# Altium schematic symbol library SM3041-015-D-C-3-S.SchLib: 1 symbol
Pins are listed as number, name and electrical type; pins without a type are passive.

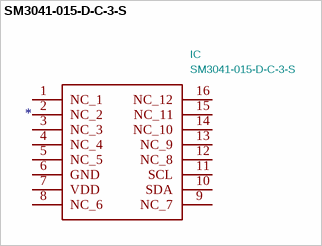
[diagram p0: symbol SM3041-015-D-C-3-S]

## SM3041-015-D-C-3-S
designator IC  value SM3041-015-D-C-3-S
Board Mount Pressure Sensors Med Pressure Sensor Digital Output; Manufacturer_Name: Silicon Microstructures, Inc.; Footprint: SOIC127P1031X952-16N; Supplier: https://www.mouser.co.uk/datasheet/2/589/SM3041_Datasheet2-930329.pdf; Description_: Board Mount Pressure Sensors Med Pressure Sensor Digital Output; Height: 9.52; Manufacturer_Part_Number: SM3041-015-D-C-3-S; Mouser Part Number: 987-SM3041-015DC3S; Mouser Price/Stock: https://www.mouser.com/Search/Refine.aspx?Keyword=987-SM3041-015DC3S
footprint SOIC127P1031X952-16N
pins: 1 NC_1, 2 NC_2, 3 NC_3, 4 NC_4, 5 NC_5, 6 GND, 7 VDD, 8 NC_6, 9 NC_7, 10 SDA, 11 SCL, 12 NC_8, 13 NC_9, 14 NC_10, 15 NC_11, 16 NC_12